# EAGLE library part 691334500010 (library WR-TBL Pluggable Connector)
WR-TBL Serie 3345 - 5.08 mm Double Level Vertical Male PCB Header w. Flanges & Nut Type KIND PROPERTIES Pitch 5.08 mm MATERIAL PROPERTIES Insulator Material PA66 Insulator Flammability Rating UL94 V-0 Contact Material Brass Contact Plating Tin GENERAL INFORMATION Operating Temperature -40 up to +105 °C Compliance RoHS ELECTRICAL PROPERTIES IR UL 20 A Working Voltage [UL] 300 V (AC) Withstanding Voltage [cULus] 1600 V (AC) Contact Resistance [cULus] 20 mΩ CERTIFICATION cULus Approval E315414 <https://www.we-online.com/catalog/media/o33286v209%20Family_WR-TBL_6913345000xx.jpg> Details see: https://www.we-online.com/catalog/en/TBL_5_08_3345_DOUBLE_LEVEL_VERTICAL_MALE_PCB_HEADER_W_FLANGES_AND_NUT_6913345000XX/ Updated by Ella Wu 2019-12-25 2022(C) Wurth Elektronik
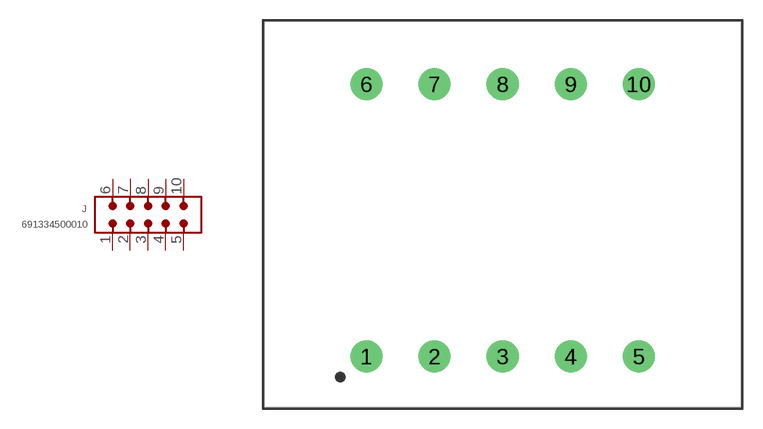
[diagram p291: symbol with the pads of 691334500010; footprint 691334500010]

Designator prefix J

## 691334500010 (DATASHEET-URL: https://www.we-online.com/redexpert/spec/691334500010?ae; IR-UL: 20A; MOUNT: THT; PART-NUMBER: 691334500010; PINS: 10; PITCH: 5.08mm; TYPE: Double Level Vertical; VALUE: 691334500010; WORKING-VOLTAGE-UL: 300V (AC))  [691334500010]
1  1  pas
2  2  pas
3  3  pas
4  4  pas
5  5  pas
6  6  pas
7  7  pas
8  8  pas
9  9  pas
10  10  pas

## Footprint 691334500010 (pad centres in mm)
WR-TBL Serie 3345 - 5.08 mm Double Level Vertical Male PCB Header w. Flanges & Nut Type Max Height = 22mm , Pitch 5.08mm , 10pins
drill 1.6: 1 -10.16,-10.16; 2 -5.08,-10.16; 3 0,-10.16; 4 5.08,-10.16; 5 10.16,-10.16; 6 -10.16,10.16; 7 -5.08,10.16; 8 0,10.16; 9 5.08,10.16; 10 10.16,10.16